# EAGLE library part SN74V293 (library Zoli2_2015-02-22)
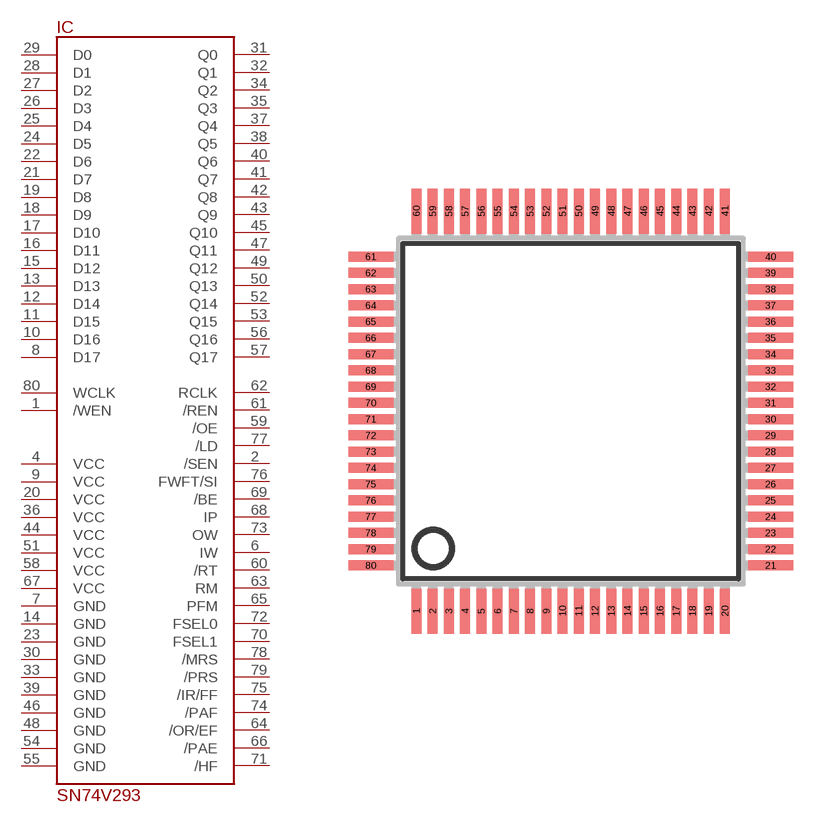
[diagram p44: symbol with the pads of SQFP-S-14X14-80; footprint SQFP-S-14X14-80]

Designator prefix IC

## SN74V293-15PZA  [SQFP-S-14X14-80]
1  /WEN  in
2  /SEN  in
4  VCC  pwr
6  IW  in
7  GND  pwr
8  D17  in
9  VCC  pwr
10  D16  in
11  D15  in
12  D14  in
13  D13  in
14  GND  pwr
15  D12  in
16  D11  in
17  D10  in
18  D9  in
19  D8  in
20  VCC  pwr
21  D7  in
22  D6  in
23  GND  pwr
24  D5  in
25  D4  in
26  D3  in
27  D2  in
28  D1  in
29  D0  in
30  GND  pwr
31  Q0  hiz
32  Q1  hiz
33  GND  pwr
34  Q2  hiz
35  Q3  hiz
36  VCC  pwr
37  Q4  hiz
38  Q5  hiz
39  GND  pwr
40  Q6  hiz
41  Q7  hiz
42  Q8  hiz
43  Q9  hiz
44  VCC  pwr
45  Q10  hiz
46  GND  pwr
47  Q11  hiz
48  GND  pwr
49  Q12  hiz
50  Q13  hiz
51  VCC  pwr
52  Q14  hiz
53  Q15  hiz
54  GND  pwr
55  GND  pwr
56  Q16  hiz
57  Q17  hiz
58  VCC  pwr
59  /OE  in
60  /RT  in
61  /REN  in
62  RCLK  in
63  RM  in
64  /OR/EF  out
65  PFM  in
66  /PAE  out
67  VCC  pwr
68  IP  in
69  /BE  in
70  FSEL1  in
71  /HF  out
72  FSEL0  in
73  OW  in
74  /PAF  out
75  /IR/FF  out
76  FWFT/SI  in
77  /LD  in
78  /MRS  in
79  /PRS  in
80  WCLK  in

## Footprint SQFP-S-14X14-80 (pad centres in mm)
QFP80 shrink quad flat pack, square
smd 0.4 x 1.8: 1 -6.175,-8; 2 -5.525,-8; 3 -4.875,-8; 4 -4.225,-8; 5 -3.575,-8; 6 -2.925,-8; 7 -2.275,-8; 8 -1.625,-8; 9 -0.975,-8; 10 -0.325,-8; 11 0.325,-8; 12 0.975,-8; 13 1.625,-8; 14 2.275,-8; 15 2.925,-8; 16 3.575,-8; 17 4.225,-8; 18 4.875,-8; 19 5.525,-8; 20 6.175,-8; 41 6.175,8; 42 5.525,8; 43 4.875,8; 44 4.225,8; 45 3.575,8; 46 2.925,8; 47 2.275,8; 48 1.625,8; 49 0.975,8; 50 0.325,8; 51 -0.325,8; 52 -0.975,8; 53 -1.625,8; 54 -2.275,8; 55 -2.925,8; 56 -3.575,8; 57 -4.225,8; 58 -4.875,8; 59 -5.525,8; 60 -6.175,8
smd 1.8 x 0.4: 21 8,-6.175; 22 8,-5.525; 23 8,-4.875; 24 8,-4.225; 25 8,-3.575; 26 8,-2.925; 27 8,-2.275; 28 8,-1.625; 29 8,-0.975; 30 8,-0.325; 31 8,0.325; 32 8,0.975; 33 8,1.625; 34 8,2.275; 35 8,2.925; 36 8,3.575; 37 8,4.225; 38 8,4.875; 39 8,5.525; 40 8,6.175; 61 -8,6.175; 62 -8,5.525; 63 -8,4.875; 64 -8,4.225; 65 -8,3.575; 66 -8,2.925; 67 -8,2.275; 68 -8,1.625; 69 -8,0.975; 70 -8,0.325; 71 -8,-0.325; 72 -8,-0.975; 73 -8,-1.625; 74 -8,-2.275; 75 -8,-2.925; 76 -8,-3.575; 77 -8,-4.225; 78 -8,-4.875; 79 -8,-5.525; 80 -8,-6.175